# Altium footprint library PCB_LIB_Microcontroller.PcbLib: 13 footprints
Each footprint in its own frame and in the unit in brackets; x right, y up, seen from the top. Pads: shape width x height; smd on the part's side, far side on the other; paste and mask are expansions set on the pad; w line width, h text height; cw(c..) or ccw(c..) is an arc to the next point about the centre after c.
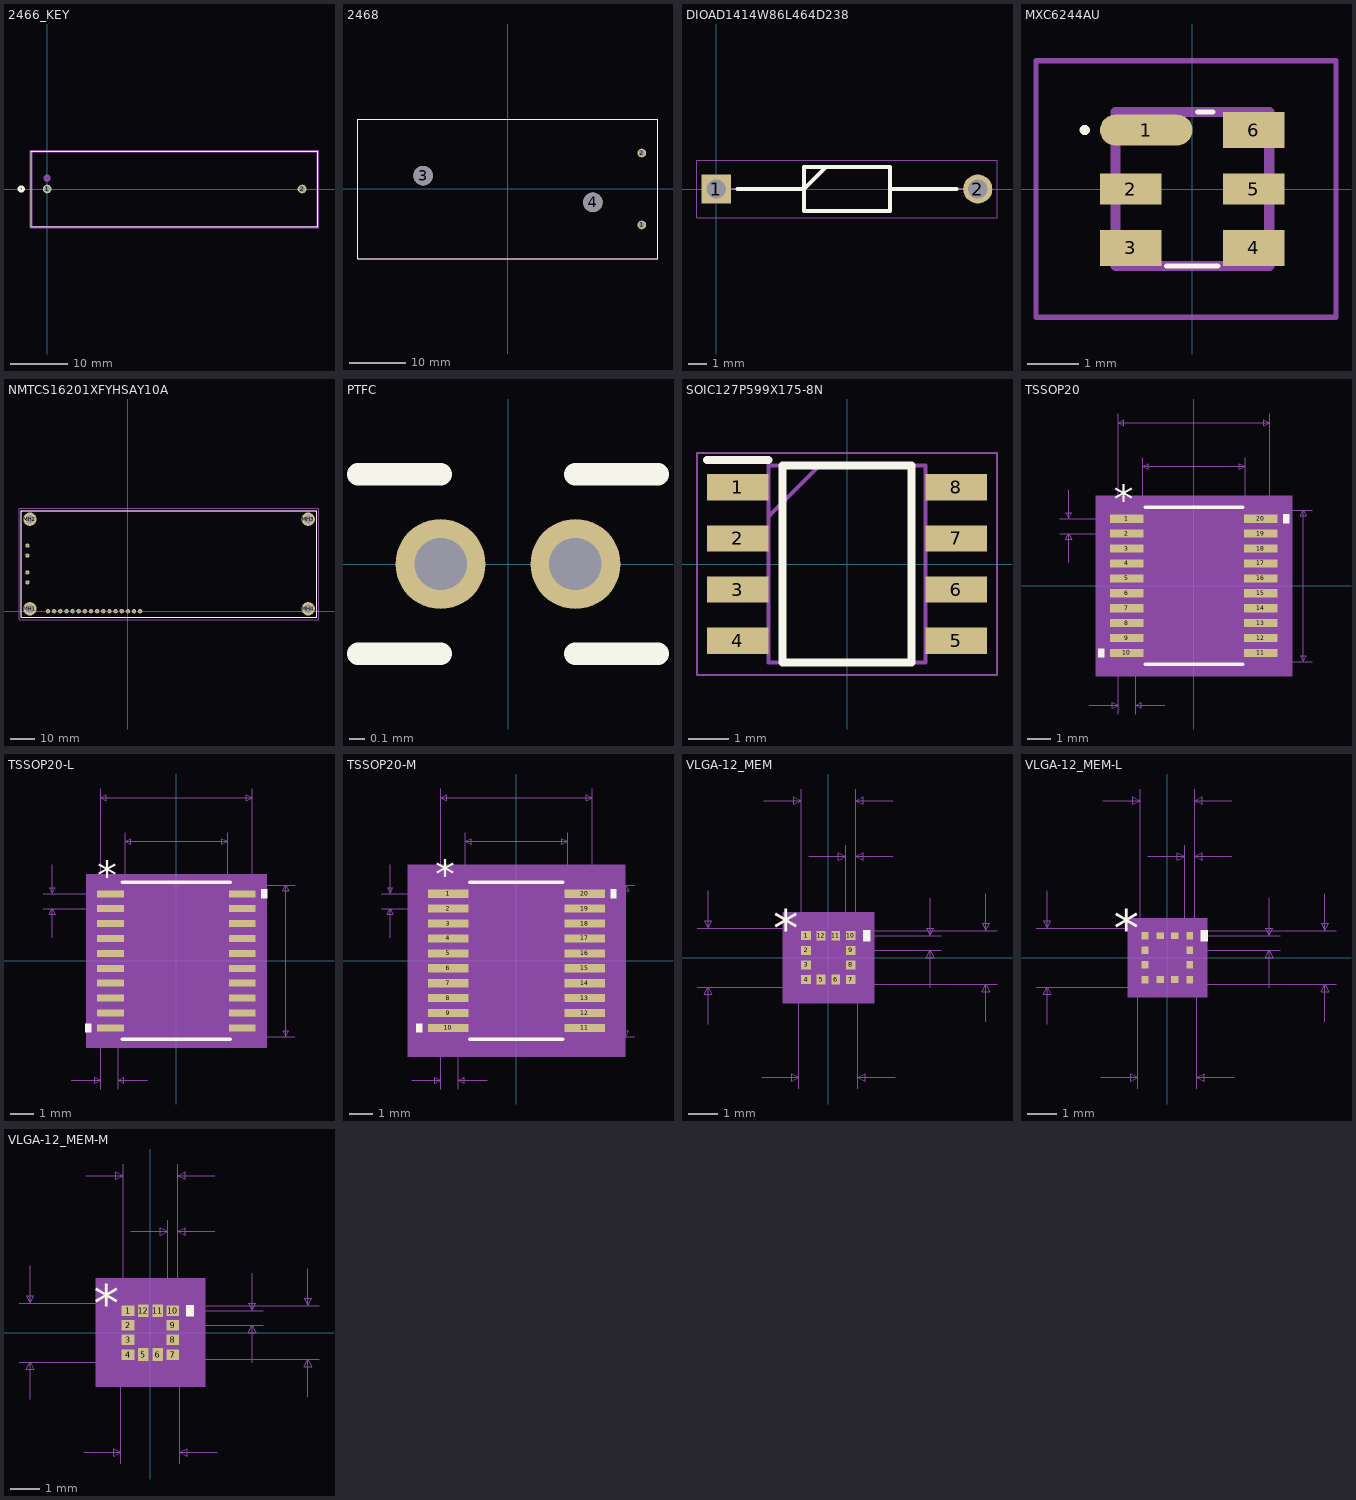
[diagram p0: the footprints below, top view; thin cyan lines are the x and y axes]

## 2466_KEY [mil]
pads (2):
  round 60 hole 40 mask+0: 1(0,0) 2(1760,0)
Top Overlay:
  circle w20: c-179,0 r15
  lines w6: -109,-261 -109,261 1869,261 1869,-261 -109,-261
Bottom Overlay:
  circle w20: c-179,0 r15
Mechanical 13:
  circle w20: c0,75 r15
  lines w1: -104,-256 -104,256 1864,256 1864,-256 -104,-256
Mechanical 15:
  lines w1: -117,-269 -117,269 1877,269 1877,-269 -117,-269
3D body: height 10, standoff 0, extent 0,0 10,10

## 2468 [mm]
pads (4):
  round 1.53 hole 1.02: 1(23.625,-6.35) 2(23.625,6.35)
  round 3.45 hole 3.45 unplated: 3(-14.985,2.35) 4(14.985,-2.35)
Top Overlay:
  lines w0.1: -26.49,-12.295 -26.49,12.295 26.49,12.295 26.49,-12.295 -26.49,-12.295
Mechanical 13:
  lines w0.1: -26.49,-12.295 -26.49,12.295 26.49,12.295 26.49,-12.295 -26.49,-12.295
3D body "2468.stp": height 13.7, standoff -12, extent -26.72,-12.295 26.26,12.295

## DIOAD1414W86L464D238 [mm]
pads (2):
  rect 1.575x1.575 hole 1.05: 1(0,0)
  round 1.575 hole 1.05: 2(14.1,0)
Top Overlay:
  lines w0.2: 1.138,0 4.732,0 5.92,1.188 ; 9.368,0 12.962,0 ; 4.732,-1.188 4.732,1.188 9.368,1.188 9.368,-1.188 4.732,-1.188
Mechanical 13:
  lines w0.1: 0,0 4.732,0 5.92,1.188 ; 9.368,0 14.1,0 ; 4.732,-1.187 4.732,1.188 9.367,1.188 9.367,-1.187 4.732,-1.187
Mechanical 15:
  lines w0.05: -1.038,-1.537 -1.038,1.538 15.137,1.538 15.137,-1.537 -1.038,-1.537
3D body "1N5818.stp": height 2.7, standoff -2.71, extent -0.427,-1.352 14.565,1.352

## MXC6244AU [mm]
pads (6):
  rrect100% 1.8x0.6 smd: 1(-0.9,1.15)
  rect 1.2x0.6 smd: 2(-1.2,0) 5(1.2,0)
  rect 1.2x0.7 smd: 3(-1.2,-1.15) 4(1.2,-1.15) 6(1.2,1.15)
Top Overlay:
  lines w0.1: -0.5,-1.5 0.5,-1.5 ; 0.1,1.5 0.4,1.5 ; -2.1,1.1 ccw(c-2.1,1.15) -2.1,1.2 ccw(c-2.1,1.15) -2.1,1.1
Mechanical 13:
  lines w0.2: -1.5,-1.5 -1.5,1.5 1.5,1.5 1.5,-1.5 -1.5,-1.5
Mechanical 15:
  lines w0.1: -3.05,-2.5 -3.05,2.5 2.8,2.5 2.8,-2.5 -3.05,-2.5
3D body "MXC6244AU.stp": height 1.4, standoff 0, extent -1.5,-1.5 1.5,1.5

## NMTCS16201XFYHSAY10A [mm]
pads (24):
  round 1.8 hole 1: 1(0,0) 2(-2.54,0) 3(-5.08,0) 4(-7.62,0) 5(-10.16,0) 6(-12.7,0) 7(-15.24,0) 8(-17.78,0) 9(-20.32,0) 10(-22.86,0) 11(-25.4,0) 12(-27.94,0) 13(-30.48,0) 14(-33.02,0) 15(2.54,0) 16(5.08,0) A1(-41.5,16) A2(-41.5,11.88) K1(-41.5,23) K2(-41.5,27.12)
  round 5.55 hole 3.5: MH1(-40.5,1) MH2(-40.5,38) MH3(74.5,38) MH4(74.5,1)
Top Overlay:
  lines w0.2: 0,-3.2 cw(c0,-3.15) 0,-3.1 ; 0,-3.2 ccw(c0,-3.15) 0,-3.1 ; 0,-3.2 cw(c0,-3.15) 0,-3.1 ; -44,-2.5 -44,41.5 78,41.5 78,-2.5 -44,-2.5
Mechanical 13:
  lines w0.1: -44,-2.5 -44,41.5 78,41.5 78,-2.5 -44,-2.5
Mechanical 15:
  lines w0.1: -45,-3.5 -45,42.5 79,42.5 79,-3.5 -45,-3.5
3D body "NMTC-S16201XFYHSAY-10A.stp": height 14.1, standoff -5, extent -44,-2.5 78,41.5

## PTFC [mm]
pads (2):
  round 0.6 hole 0.35: ""(-0.45,0) ""(0.45,0)
Top Overlay:
  lines w0.15: -1,-0.6 -0.45,-0.6 ; -1,0.6 -0.45,0.6 ; 0.45,-0.6 1,-0.6 ; 0.45,0.6 1,0.6
3D body "c-nb-ptco-157-a-3d.stp": height 6.3, standoff -6, extent -1,-0.5 1,0.5

## SOIC127P599X175-8N [mm]
pads (8):
  rect 1.526x0.65 smd: 1(-2.712,1.905) 2(-2.712,0.635) 3(-2.712,-0.635) 4(-2.712,-1.905) 5(2.712,-1.905) 6(2.712,-0.635) 7(2.712,0.635) 8(2.712,1.905)
Top Overlay:
  lines w0.2: -3.475,2.58 -1.95,2.58 ; -1.6,-2.451 -1.6,2.451 1.6,2.451 1.6,-2.451 -1.6,-2.451
Mechanical 13:
  lines w0.1: -1.95,1.181 -0.68,2.451 ; -1.95,-2.451 -1.95,2.451 1.95,2.451 1.95,-2.451 -1.95,-2.451
Mechanical 15:
  lines w0.05: -3.725,-2.752 -3.725,2.752 3.725,2.752 3.725,-2.752 -3.725,-2.752
3D body "LT1110CS8#PBF.stp": height 1.75, standoff 0, extent -2.997,-2.451 2.997,2.451

## TSSOP20 [mm]
pads (20):
  rect 1.462x0.355 smd paste+0 mask+0: 1(-2.921,2.925) 2(-2.921,2.275) 3(-2.921,1.625) 4(-2.921,0.975) 5(-2.921,0.325) 6(-2.921,-0.325) 7(-2.921,-0.975) 8(-2.921,-1.625) 9(-2.921,-2.275) 10(-2.921,-2.925) 11(2.921,-2.925) 12(2.921,-2.275) 13(2.921,-1.625) 14(2.921,-0.975) 15(2.921,-0.325) 16(2.921,0.325) 17(2.921,0.975) 18(2.921,1.625) 19(2.921,2.275) 20(2.921,2.925)
Top Overlay:
  region: 3.906,3.115 4.16,3.115 4.16,2.734 3.906,2.734
  region: -3.906,-2.734 -4.16,-2.734 -4.16,-3.115 -3.906,-3.115
  lines w0.152: -2.126,-3.429 2.126,-3.429 ; -2.126,3.429 2.126,3.429
  text "*" at -3.492,3.153 h1.27
Mechanical 5:
  region: 4.287,-3.937 -4.287,-3.937 -4.287,3.937 4.287,3.937
Mechanical 7:
  lines w0.025: -5.842,2.275 -2.921,2.275 ; -5.842,2.925 -2.921,2.925 ; -5.461,1.005 -5.461,2.275 ; -5.461,4.195 -5.461,2.925 ; -4.572,-5.207 -3.302,-5.207 ; -3.302,-5.588 -3.302,0 -3.302,7.493 ; -2.54,-5.588 -2.54,0 ; -2.235,0 -2.235,5.588 ; -1.27,-5.207 -2.54,-5.207 ; 0,-3.302 5.156,-3.302 ; 0,3.302 5.156,3.302 ; 2.235,0 2.235,5.588 ; 3.302,0 3.302,7.493 ; -5.461,2.275 -5.334,2.021 -5.588,2.021 -5.461,2.275 ; -5.461,2.925 -5.334,3.179 -5.588,3.179 -5.461,2.925 ; -3.302,-5.207 -3.556,-5.334 -3.556,-5.08 -3.302,-5.207 ; -3.302,7.112 -3.048,6.985 -3.048,7.239 -3.302,7.112 ; -3.302,7.112 3.302,7.112 ; -2.54,-5.207 -2.286,-5.334 -2.286,-5.08 -2.54,-5.207 ; -2.235,5.207 -1.981,5.08 -1.981,5.334 -2.235,5.207 ; -2.235,5.207 2.235,5.207 ; 2.235,5.207 1.981,5.08 1.981,5.334 2.235,5.207 ; 3.302,7.112 3.048,6.985 3.048,7.239 3.302,7.112 ; 4.775,-3.302 4.902,-3.048 4.648,-3.048 4.775,-3.302 ; 4.775,-3.302 4.775,3.302 ; 4.775,3.302 4.902,3.048 4.648,3.048 4.775,3.302
  text "0.03in/0.762mm" at -5.143,-6.35 h0.64
  text "0.026in/0.65mm" at -10.414,2.282 h0.64
  text "0.26in/6.604mm" at 5.283,-0.318 h0.64
  text "0.26in/6.604mm" at -2.222,7.62 h0.64
  text "0.176in/4.47mm" at -2.222,5.715 h0.64
  text "Alt 2 Padstyle: b229_152h76" at -8.572,-16.002 h1.27
  text "Alt 1 Padstyle: b152_229h76" at -8.572,-14.478 h1.27
  text "Pin One Padstyle: r146_35" at -7.938,-9.906 h1.27
  text "Default Padstyle: r146_35" at -7.938,-8.382 h1.27
Mechanical 13:
  lines w0: -0.305,3.302 ccw(c0,3.302) 0.305,3.302
  lines w0.025: -3.302,-3.077 -2.235,-3.077 -2.235,-2.773 -3.302,-2.773 -3.302,-3.077 ; -3.302,-2.427 -2.235,-2.427 -2.235,-2.123 -3.302,-2.123 -3.302,-2.427 ; -3.302,-1.777 -2.235,-1.777 -2.235,-1.473 -3.302,-1.473 -3.302,-1.777 ; -3.302,-1.127 -2.235,-1.127 -2.235,-0.823 -3.302,-0.823 -3.302,-1.127 ; -3.302,-0.477 -2.235,-0.477 -2.235,-0.173 -3.302,-0.173 -3.302,-0.477 ; -3.302,0.173 -2.235,0.173 -2.235,0.477 -3.302,0.477 -3.302,0.173 ; -3.302,0.823 -2.235,0.823 -2.235,1.127 -3.302,1.127 -3.302,0.823 ; -3.302,1.473 -2.235,1.473 -2.235,1.777 -3.302,1.777 -3.302,1.473 ; -3.302,2.123 -2.235,2.123 -2.235,2.427 -3.302,2.427 -3.302,2.123 ; -3.302,2.773 -2.235,2.773 -2.235,3.077 -3.302,3.077 -3.302,2.773 ; -2.235,-3.302 -2.235,3.302 2.235,3.302 2.235,-3.302 -2.235,-3.302 ; 2.235,-3.077 3.302,-3.077 3.302,-2.773 2.235,-2.773 2.235,-3.077 ; 2.235,-2.427 3.302,-2.427 3.302,-2.123 2.235,-2.123 2.235,-2.427 ; 2.235,-1.777 3.302,-1.777 3.302,-1.473 2.235,-1.473 2.235,-1.777 ; 2.235,-1.127 3.302,-1.127 3.302,-0.823 2.235,-0.823 2.235,-1.127 ; 2.235,-0.477 3.302,-0.477 3.302,-0.173 2.235,-0.173 2.235,-0.477 ; 2.235,0.173 3.302,0.173 3.302,0.477 2.235,0.477 2.235,0.173 ; 2.235,0.823 3.302,0.823 3.302,1.127 2.235,1.127 2.235,0.823 ; 2.235,1.473 3.302,1.473 3.302,1.777 2.235,1.777 2.235,1.473 ; 2.235,2.123 3.302,2.123 3.302,2.427 2.235,2.427 2.235,2.123 ; 2.235,2.773 3.302,2.773 3.302,3.077 2.235,3.077 2.235,2.773
  text "*" at -2.172,1.956 h1.27
Mechanical 15:
  region: -2.489,-3.356 -3.906,-3.356 -3.906,3.356 -2.489,3.356 -2.489,3.556 2.489,3.556 2.489,3.356 3.906,3.356 3.906,-3.356 2.489,-3.356 2.489,-3.556 -2.489,-3.556
  lines w0.152: -3.906,-3.356 -2.489,-3.356 -2.489,-3.556 2.489,-3.556 2.489,-3.356 3.906,-3.356 3.906,3.356 2.489,3.356 2.489,3.556 -2.489,3.556 -2.489,3.356 -3.906,3.356 -3.906,-3.356
3D body "TSSOP20.step": height 1.2, standoff 0, extent -3.302,-3.302 3.302,3.302
3D body "TSSOP20.step": height 1.2, standoff 0, extent -3.302,-3.302 3.302,3.302

## TSSOP20-L [mm]
pads (20):
  rect 1.162x0.305 smd paste+0 mask+0: 1(-2.871,2.925) 2(-2.871,2.275) 3(-2.871,1.625) 4(-2.871,0.975) 5(-2.871,0.325) 6(-2.871,-0.325) 7(-2.871,-0.975) 8(-2.871,-1.625) 9(-2.871,-2.275) 10(-2.871,-2.925) 11(2.871,-2.925) 12(2.871,-2.275) 13(2.871,-1.625) 14(2.871,-0.975) 15(2.871,-0.325) 16(2.871,0.325) 17(2.871,0.975) 18(2.871,1.625) 19(2.871,2.275) 20(2.871,2.925)
Top Overlay:
  region: -3.706,-2.734 -3.96,-2.734 -3.96,-3.115 -3.706,-3.115
  region: 3.706,3.115 3.96,3.115 3.96,2.734 3.706,2.734
  lines w0.152: -2.362,-3.429 2.362,-3.429 ; -2.362,3.429 2.362,3.429
  text "*" at -3.443,3.103 h1.27
Mechanical 5:
  region: 3.935,-3.785 -3.935,-3.785 -3.935,3.785 3.935,3.785
Mechanical 7:
  lines w0.025: -5.792,2.275 -2.871,2.275 ; -5.792,2.925 -2.871,2.925 ; -5.411,1.005 -5.411,2.275 ; -5.411,4.195 -5.411,2.925 ; -4.572,-5.207 -3.302,-5.207 ; -3.302,-5.588 -3.302,0 -3.302,7.493 ; -2.54,-5.588 -2.54,0 ; -2.235,0 -2.235,5.588 ; -1.27,-5.207 -2.54,-5.207 ; 0,-3.302 5.156,-3.302 ; 0,3.302 5.156,3.302 ; 2.235,0 2.235,5.588 ; 3.302,0 3.302,7.493 ; -5.411,2.275 -5.538,2.021 -5.284,2.021 -5.411,2.275 ; -5.411,2.925 -5.538,3.179 -5.284,3.179 -5.411,2.925 ; -3.302,-5.207 -3.556,-5.08 -3.556,-5.334 -3.302,-5.207 ; -3.302,7.112 3.302,7.112 ; -3.302,7.112 -3.048,7.239 -3.048,6.985 -3.302,7.112 ; -2.54,-5.207 -2.286,-5.08 -2.286,-5.334 -2.54,-5.207 ; -2.235,5.207 2.235,5.207 ; -2.235,5.207 -1.981,5.334 -1.981,5.08 -2.235,5.207 ; 2.235,5.207 1.981,5.334 1.981,5.08 2.235,5.207 ; 3.302,7.112 3.048,7.239 3.048,6.985 3.302,7.112 ; 4.775,-3.302 4.775,3.302 ; 4.775,-3.302 4.648,-3.048 4.902,-3.048 4.775,-3.302 ; 4.775,3.302 4.648,3.048 4.902,3.048 4.775,3.302
  text "Default Padstyle: r116_30" at -7.938,-8.382 h1.27
  text "Pin One Padstyle: r116_30" at -7.938,-9.906 h1.27
  text "Alt 1 Padstyle: b152_229h76" at -8.572,-14.478 h1.27
  text "Alt 2 Padstyle: b229_152h76" at -8.572,-16.002 h1.27
  text "0.176in/4.47mm" at -2.222,5.715 h0.64
  text "0.26in/6.604mm" at -2.222,7.62 h0.64
  text "0.26in/6.604mm" at 5.283,-0.318 h0.64
  text "0.026in/0.65mm" at -10.364,2.282 h0.64
  text "0.03in/0.762mm" at -5.143,-6.35 h0.64
Mechanical 13:
  lines w0: -0.305,3.302 ccw(c0,3.302) 0.305,3.302
  lines w0.025: -3.302,-3.077 -3.302,-2.773 -2.235,-2.773 -2.235,-3.077 -3.302,-3.077 ; -3.302,-2.427 -3.302,-2.123 -2.235,-2.123 -2.235,-2.427 -3.302,-2.427 ; -3.302,-1.777 -3.302,-1.473 -2.235,-1.473 -2.235,-1.777 -3.302,-1.777 ; -3.302,-1.127 -3.302,-0.823 -2.235,-0.823 -2.235,-1.127 -3.302,-1.127 ; -3.302,-0.477 -3.302,-0.173 -2.235,-0.173 -2.235,-0.477 -3.302,-0.477 ; -3.302,0.173 -3.302,0.477 -2.235,0.477 -2.235,0.173 -3.302,0.173 ; -3.302,0.823 -3.302,1.127 -2.235,1.127 -2.235,0.823 -3.302,0.823 ; -3.302,1.473 -3.302,1.777 -2.235,1.777 -2.235,1.473 -3.302,1.473 ; -3.302,2.123 -3.302,2.427 -2.235,2.427 -2.235,2.123 -3.302,2.123 ; -3.302,2.773 -3.302,3.077 -2.235,3.077 -2.235,2.773 -3.302,2.773 ; -2.235,-3.302 2.235,-3.302 2.235,3.302 -2.235,3.302 -2.235,-3.302 ; 2.235,-3.077 2.235,-2.773 3.302,-2.773 3.302,-3.077 2.235,-3.077 ; 2.235,-2.427 2.235,-2.123 3.302,-2.123 3.302,-2.427 2.235,-2.427 ; 2.235,-1.777 2.235,-1.473 3.302,-1.473 3.302,-1.777 2.235,-1.777 ; 2.235,-1.127 2.235,-0.823 3.302,-0.823 3.302,-1.127 2.235,-1.127 ; 2.235,-0.477 2.235,-0.173 3.302,-0.173 3.302,-0.477 2.235,-0.477 ; 2.235,0.173 2.235,0.477 3.302,0.477 3.302,0.173 2.235,0.173 ; 2.235,0.823 2.235,1.127 3.302,1.127 3.302,0.823 2.235,0.823 ; 2.235,1.473 2.235,1.777 3.302,1.777 3.302,1.473 2.235,1.473 ; 2.235,2.123 2.235,2.427 3.302,2.427 3.302,2.123 2.235,2.123 ; 2.235,2.773 2.235,3.077 3.302,3.077 3.302,2.773 2.235,2.773
  text "*" at -2.172,1.956 h1.27
Mechanical 15:
  region: -2.337,-3.179 -3.554,-3.179 -3.554,3.179 -2.337,3.179 -2.337,3.404 2.337,3.404 2.337,3.179 3.554,3.179 3.554,-3.179 2.337,-3.179 2.337,-3.404 -2.337,-3.404
  lines w0.152: -3.554,-3.179 -3.554,3.179 -2.337,3.179 -2.337,3.404 2.337,3.404 2.337,3.179 3.554,3.179 3.554,-3.179 2.337,-3.179 2.337,-3.404 -2.337,-3.404 -2.337,-3.179 -3.554,-3.179
3D body "TSSOP20.step": height 1.2, standoff 0, extent -3.302,-3.302 3.302,3.302

## TSSOP20-M [mm]
pads (20):
  rect 1.762x0.355 smd paste+0 mask+0: 1(-2.971,2.925) 2(-2.971,2.275) 3(-2.971,1.625) 4(-2.971,0.975) 5(-2.971,0.325) 6(-2.971,-0.325) 7(-2.971,-0.975) 8(-2.971,-1.625) 9(-2.971,-2.275) 10(-2.971,-2.925) 11(2.971,-2.925) 12(2.971,-2.275) 13(2.971,-1.625) 14(2.971,-0.975) 15(2.971,-0.325) 16(2.971,0.325) 17(2.971,0.975) 18(2.971,1.625) 19(2.971,2.275) 20(2.971,2.925)
Top Overlay:
  region: 4.106,3.115 4.36,3.115 4.36,2.734 4.106,2.734
  region: -4.106,-2.734 -4.36,-2.734 -4.36,-3.115 -4.106,-3.115
  lines w0.152: -2.026,-3.429 2.026,-3.429 ; -2.026,3.429 2.026,3.429
  text "*" at -3.542,3.153 h1.27
Mechanical 5:
  region: 4.741,-4.191 -4.741,-4.191 -4.741,4.191 4.741,4.191
Mechanical 7:
  lines w0.025: -5.892,2.275 -2.971,2.275 ; -5.892,2.925 -2.971,2.925 ; -5.511,1.005 -5.511,2.275 ; -5.511,4.195 -5.511,2.925 ; -4.572,-5.207 -3.302,-5.207 ; -3.302,-5.588 -3.302,0 -3.302,7.493 ; -2.54,-5.588 -2.54,0 ; -2.235,0 -2.235,5.588 ; -1.27,-5.207 -2.54,-5.207 ; 0,-3.302 5.156,-3.302 ; 0,3.302 5.156,3.302 ; 2.235,0 2.235,5.588 ; 3.302,0 3.302,7.493 ; -5.511,2.275 -5.384,2.021 -5.638,2.021 -5.511,2.275 ; -5.511,2.925 -5.384,3.179 -5.638,3.179 -5.511,2.925 ; -3.302,-5.207 -3.556,-5.334 -3.556,-5.08 -3.302,-5.207 ; -3.302,7.112 -3.048,6.985 -3.048,7.239 -3.302,7.112 ; -3.302,7.112 3.302,7.112 ; -2.54,-5.207 -2.286,-5.334 -2.286,-5.08 -2.54,-5.207 ; -2.235,5.207 -1.981,5.08 -1.981,5.334 -2.235,5.207 ; -2.235,5.207 2.235,5.207 ; 2.235,5.207 1.981,5.08 1.981,5.334 2.235,5.207 ; 3.302,7.112 3.048,6.985 3.048,7.239 3.302,7.112 ; 4.775,-3.302 4.902,-3.048 4.648,-3.048 4.775,-3.302 ; 4.775,-3.302 4.775,3.302 ; 4.775,3.302 4.902,3.048 4.648,3.048 4.775,3.302
  text "0.03in/0.762mm" at -5.143,-6.35 h0.64
  text "0.026in/0.65mm" at -10.464,2.282 h0.64
  text "0.26in/6.604mm" at 5.283,-0.318 h0.64
  text "0.26in/6.604mm" at -2.222,7.62 h0.64
  text "0.176in/4.47mm" at -2.222,5.715 h0.64
  text "Alt 2 Padstyle: b229_152h76" at -8.572,-16.002 h1.27
  text "Alt 1 Padstyle: b152_229h76" at -8.572,-14.478 h1.27
  text "Pin One Padstyle: r176_35" at -7.938,-9.906 h1.27
  text "Default Padstyle: r176_35" at -7.938,-8.382 h1.27
Mechanical 13:
  lines w0: -0.305,3.302 ccw(c0,3.302) 0.305,3.302
  lines w0.025: -3.302,-3.077 -2.235,-3.077 -2.235,-2.773 -3.302,-2.773 -3.302,-3.077 ; -3.302,-2.427 -2.235,-2.427 -2.235,-2.123 -3.302,-2.123 -3.302,-2.427 ; -3.302,-1.777 -2.235,-1.777 -2.235,-1.473 -3.302,-1.473 -3.302,-1.777 ; -3.302,-1.127 -2.235,-1.127 -2.235,-0.823 -3.302,-0.823 -3.302,-1.127 ; -3.302,-0.477 -2.235,-0.477 -2.235,-0.173 -3.302,-0.173 -3.302,-0.477 ; -3.302,0.173 -2.235,0.173 -2.235,0.477 -3.302,0.477 -3.302,0.173 ; -3.302,0.823 -2.235,0.823 -2.235,1.127 -3.302,1.127 -3.302,0.823 ; -3.302,1.473 -2.235,1.473 -2.235,1.777 -3.302,1.777 -3.302,1.473 ; -3.302,2.123 -2.235,2.123 -2.235,2.427 -3.302,2.427 -3.302,2.123 ; -3.302,2.773 -2.235,2.773 -2.235,3.077 -3.302,3.077 -3.302,2.773 ; -2.235,-3.302 -2.235,3.302 2.235,3.302 2.235,-3.302 -2.235,-3.302 ; 2.235,-3.077 3.302,-3.077 3.302,-2.773 2.235,-2.773 2.235,-3.077 ; 2.235,-2.427 3.302,-2.427 3.302,-2.123 2.235,-2.123 2.235,-2.427 ; 2.235,-1.777 3.302,-1.777 3.302,-1.473 2.235,-1.473 2.235,-1.777 ; 2.235,-1.127 3.302,-1.127 3.302,-0.823 2.235,-0.823 2.235,-1.127 ; 2.235,-0.477 3.302,-0.477 3.302,-0.173 2.235,-0.173 2.235,-0.477 ; 2.235,0.173 3.302,0.173 3.302,0.477 2.235,0.477 2.235,0.173 ; 2.235,0.823 3.302,0.823 3.302,1.127 2.235,1.127 2.235,0.823 ; 2.235,1.473 3.302,1.473 3.302,1.777 2.235,1.777 2.235,1.473 ; 2.235,2.123 3.302,2.123 3.302,2.427 2.235,2.427 2.235,2.123 ; 2.235,2.773 3.302,2.773 3.302,3.077 2.235,3.077 2.235,2.773
  text "*" at -2.172,1.956 h1.27
Mechanical 15:
  region: -2.743,-3.61 -4.36,-3.61 -4.36,3.61 -2.743,3.61 -2.743,3.81 2.743,3.81 2.743,3.61 4.36,3.61 4.36,-3.61 2.743,-3.61 2.743,-3.81 -2.743,-3.81
  lines w0.152: -4.36,-3.61 -2.743,-3.61 -2.743,-3.81 2.743,-3.81 2.743,-3.61 4.36,-3.61 4.36,3.61 2.743,3.61 2.743,3.81 -2.743,3.81 -2.743,3.61 -4.36,3.61 -4.36,-3.61
3D body "TSSOP20.step": height 1.2, standoff 0, extent -3.302,-3.302 3.302,3.302

## VLGA-12_MEM [mil]
pads (12):
  rect 13x12 smd paste+0 mask+0: 1(-30,29.53) 2(-30,9.84) 3(-30,-9.84) 4(-30,-29.53) 7(30,-29.53) 8(30,-9.84) 9(30,9.84) 10(30,29.53)
  rect 12x13 smd paste+0 mask+0: 5(-9.84,-29.5) 6(9.84,-29.5) 11(9.84,29.5) 12(-9.84,29.5)
Top Overlay:
  region: 46.5,37.03 56.5,37.03 56.5,22.03 46.5,22.03
  text "*" at -74,14.37 h50
Mechanical 5:
  region: 61.5,-61 -61.5,-61 -61.5,61 61.5,61
Mechanical 7:
  lines w1: -176.5,-39.5 39.5,-39.5 ; -176.5,39.5 39.5,39.5 39.5,-176 ; -161.5,-89.5 -161.5,-39.5 ; -161.5,89.5 -161.5,39.5 ; -89.5,-161 -39.5,-161 ; -86.5,211 -36.5,211 ; -39.5,-176 -39.5,39.5 ; -36.5,29.53 -36.5,226 ; -26.5,136 23.5,136 ; 9.84,-36 226.5,-36 ; 9.84,36 226.5,36 ; 23.5,29.53 23.5,151 ; 30,9.84 151.5,9.84 ; 30,29.53 151.5,29.53 ; 36.5,151 36.5,29.53 36.5,226 ; 86.5,136 36.5,136 ; 86.5,211 36.5,211 ; 89.5,-161 39.5,-161 ; 136.5,-40.16 136.5,9.84 ; 136.5,79.53 136.5,29.53 ; 211.5,-86 211.5,-36 ; 211.5,86 211.5,36 ; -161.5,-39.5 -156.5,-49.5 -166.5,-49.5 -161.5,-39.5 ; -161.5,39.5 -156.5,49.5 -166.5,49.5 -161.5,39.5 ; -39.5,-161 -49.5,-166 -49.5,-156 -39.5,-161 ; -36.5,211 -46.5,206 -46.5,216 -36.5,211 ; 23.5,136 13.5,131 13.5,141 23.5,136 ; 36.5,136 46.5,131 46.5,141 36.5,136 ; 36.5,211 46.5,206 46.5,216 36.5,211 ; 39.5,-161 49.5,-166 49.5,-156 39.5,-161 ; 136.5,9.84 141.5,-0.16 131.5,-0.16 136.5,9.84 ; 136.5,29.53 141.5,39.53 131.5,39.53 136.5,29.53 ; 211.5,-36 216.5,-46 206.5,-46 211.5,-36 ; 211.5,36 216.5,46 206.5,46 211.5,36
  text "0.079in/2.007mm" at -93.75,-206 h25
  text "0.079in/2.007mm" at -369,-12.5 h25
  text "0.072in/1.829mm" at 231.5,-12.5 h25
  text "0.073in/1.854mm" at -93.75,231 h25
  text "0.013in/0.33mm" at -57.5,156 h25
  text "0.02in/0.5mm" at 156.5,7.18 h25
  text "Alt 2 Padstyle: OX90Y60D30P" at -337.5,-586 h50
  text "Alt 1 Padstyle: OX60Y90D30P" at -337.5,-526 h50
  text "Default Padstyle: RX12Y13D0T" at -350,-346 h50
Mechanical 13:
  lines w1: -39.5,-10.5 10.5,39.5 ; -39.5,-39.5 -39.5,39.5 39.5,39.5 39.5,-39.5 -39.5,-39.5 ; -39.5,-35.53 -36.5,-35.53 -36.5,-23.53 -39.5,-23.53 -39.5,-35.53 ; -39.5,-15.84 -36.5,-15.84 -36.5,-3.84 -39.5,-3.84 -39.5,-15.84 ; -39.5,3.84 -36.5,3.84 -36.5,15.84 -39.5,15.84 -39.5,3.84 ; -39.5,23.53 -36.5,23.53 -36.5,35.53 -39.5,35.53 -39.5,23.53 ; -15.84,-39.5 -15.84,-36 -3.84,-36 -3.84,-39.5 -15.84,-39.5 ; -15.84,36 -15.84,39.5 -3.84,39.5 -3.84,36 -15.84,36 ; 3.84,-39.5 3.84,-36 15.84,-36 15.84,-39.5 3.84,-39.5 ; 3.84,36 3.84,39.5 15.84,39.5 15.84,36 3.84,36 ; 36.5,-35.53 36.5,-23.53 39.5,-23.53 39.5,-35.53 36.5,-35.53 ; 36.5,-15.84 36.5,-3.84 39.5,-3.84 39.5,-15.84 36.5,-15.84 ; 36.5,3.84 36.5,15.84 39.5,15.84 39.5,3.84 36.5,3.84 ; 36.5,23.53 36.5,35.53 39.5,35.53 39.5,23.53 36.5,23.53
  text "*" at -36,14.37 h50
Mechanical 15:
  region: -25.84,-49.5 -49.5,-49.5 -49.5,-45.53 -49.5,45.53 -49.5,49.5 -25.84,49.5 25.84,49.5 49.5,49.5 49.5,45.53 49.5,-45.53 49.5,-49.5 25.84,-49.5
  lines w6: -49.5,-49.5 -25.84,-49.5 25.84,-49.5 49.5,-49.5 49.5,-45.53 49.5,45.53 49.5,49.5 25.84,49.5 -25.84,49.5 -49.5,49.5 -49.5,45.53 -49.5,-45.53 -49.5,-49.5
3D body "VLGA-12_MEM.step": height 39.09, standoff 0, extent -39.48,-39.48 39.5,39.49
3D body "VLGA-12_MEM.step": height 39.09, standoff 0, extent -39.49,-39.49 39.49,39.49

## VLGA-12_MEM-L [mil]
pads (12):
  rect 9x10 smd paste+0 mask+0: 1(-30,29.53) 2(-30,9.84) 3(-30,-9.84) 4(-30,-29.53) 7(30,-29.53) 8(30,-9.84) 9(30,9.84) 10(30,29.53)
  rect 10x9 smd paste+0 mask+0: 5(-9.84,-29.5) 6(9.84,-29.5) 11(9.84,29.5) 12(-9.84,29.5)
Top Overlay:
  region: 44.5,37.03 54.5,37.03 54.5,22.03 44.5,22.03
  text "*" at -72,14.37 h50
Mechanical 5:
  region: 53.5,-53 -53.5,-53 -53.5,53 53.5,53
Mechanical 7:
  lines w1: -176.5,-39.5 39.5,-39.5 ; -176.5,39.5 39.5,39.5 39.5,-176 ; -161.5,-89.5 -161.5,-39.5 ; -161.5,89.5 -161.5,39.5 ; -89.5,-161 -39.5,-161 ; -86.5,211 -36.5,211 ; -39.5,-176 -39.5,39.5 ; -36.5,29.53 -36.5,226 ; -26.5,136 23.5,136 ; 9.84,-36 226.5,-36 ; 9.84,36 226.5,36 ; 23.5,29.53 23.5,151 ; 30,9.84 151.5,9.84 ; 30,29.53 151.5,29.53 ; 36.5,151 36.5,29.53 36.5,226 ; 86.5,136 36.5,136 ; 86.5,211 36.5,211 ; 89.5,-161 39.5,-161 ; 136.5,-40.16 136.5,9.84 ; 136.5,79.53 136.5,29.53 ; 211.5,-86 211.5,-36 ; 211.5,86 211.5,36 ; -161.5,-39.5 -166.5,-49.5 -156.5,-49.5 -161.5,-39.5 ; -161.5,39.5 -166.5,49.5 -156.5,49.5 -161.5,39.5 ; -39.5,-161 -49.5,-156 -49.5,-166 -39.5,-161 ; -36.5,211 -46.5,216 -46.5,206 -36.5,211 ; 23.5,136 13.5,141 13.5,131 23.5,136 ; 36.5,136 46.5,141 46.5,131 36.5,136 ; 36.5,211 46.5,216 46.5,206 36.5,211 ; 39.5,-161 49.5,-156 49.5,-166 39.5,-161 ; 136.5,9.84 131.5,-0.16 141.5,-0.16 136.5,9.84 ; 136.5,29.53 131.5,39.53 141.5,39.53 136.5,29.53 ; 211.5,-36 206.5,-46 216.5,-46 211.5,-36 ; 211.5,36 206.5,46 216.5,46 211.5,36
  text "Default Padstyle: RX10Y9D0T" at -337.5,-344 h50
  text "Alt 1 Padstyle: OX60Y90D30P" at -337.5,-524 h50
  text "Alt 2 Padstyle: OX90Y60D30P" at -337.5,-584 h50
  text "0.02in/0.5mm" at 156.5,7.18 h25
  text "0.013in/0.33mm" at -57.5,156 h25
  text "0.073in/1.854mm" at -93.75,231 h25
  text "0.072in/1.829mm" at 231.5,-12.5 h25
  text "0.079in/2.007mm" at -369,-12.5 h25
  text "0.079in/2.007mm" at -93.75,-206 h25
Mechanical 13:
  lines w1: -39.5,-10.5 10.5,39.5 ; -39.5,-39.5 39.5,-39.5 39.5,39.5 -39.5,39.5 -39.5,-39.5 ; -39.5,-35.53 -39.5,-23.53 -36.5,-23.53 -36.5,-35.53 -39.5,-35.53 ; -39.5,-15.84 -39.5,-3.84 -36.5,-3.84 -36.5,-15.84 -39.5,-15.84 ; -39.5,3.84 -39.5,15.84 -36.5,15.84 -36.5,3.84 -39.5,3.84 ; -39.5,23.53 -39.5,35.53 -36.5,35.53 -36.5,23.53 -39.5,23.53 ; -15.84,-39.5 -3.84,-39.5 -3.84,-36 -15.84,-36 -15.84,-39.5 ; -15.84,36 -3.84,36 -3.84,39.5 -15.84,39.5 -15.84,36 ; 3.84,-39.5 15.84,-39.5 15.84,-36 3.84,-36 3.84,-39.5 ; 3.84,36 15.84,36 15.84,39.5 3.84,39.5 3.84,36 ; 36.5,-35.53 39.5,-35.53 39.5,-23.53 36.5,-23.53 36.5,-35.53 ; 36.5,-15.84 39.5,-15.84 39.5,-3.84 36.5,-3.84 36.5,-15.84 ; 36.5,3.84 39.5,3.84 39.5,15.84 36.5,15.84 36.5,3.84 ; 36.5,23.53 39.5,23.53 39.5,35.53 36.5,35.53 36.5,23.53
  text "*" at -38,14.37 h50
Mechanical 15:
  region: -18.84,-43.5 -43.5,-43.5 -43.5,-38.53 -43.5,38.53 -43.5,43.5 -18.84,43.5 18.84,43.5 43.5,43.5 43.5,38.53 43.5,-38.53 43.5,-43.5 18.84,-43.5
  lines w6: -43.5,-43.5 -43.5,-38.53 -43.5,38.53 -43.5,43.5 -18.84,43.5 18.84,43.5 43.5,43.5 43.5,38.53 43.5,-38.53 43.5,-43.5 18.84,-43.5 -18.84,-43.5 -43.5,-43.5
3D body "VLGA-12_MEM.step": height 39.09, standoff 0, extent -39.49,-39.49 39.49,39.49

## VLGA-12_MEM-M [mil]
pads (12):
  rect 17x14 smd paste+0 mask+0: 1(-30,29.53) 2(-30,9.84) 3(-30,-9.84) 4(-30,-29.53) 7(30,-29.53) 8(30,-9.84) 9(30,9.84) 10(30,29.53)
  rect 14x17 smd paste+0 mask+0: 5(-9.84,-29.5) 6(9.84,-29.5) 11(9.84,29.5) 12(-9.84,29.5)
Top Overlay:
  region: 48.5,37.03 58.5,37.03 58.5,22.03 48.5,22.03
  text "*" at -76,14.37 h50
Mechanical 5:
  region: 73.5,-73 -73.5,-73 -73.5,73 73.5,73
Mechanical 7:
  lines w1: -176.5,-39.5 39.5,-39.5 ; -176.5,39.5 39.5,39.5 39.5,-176 ; -161.5,-89.5 -161.5,-39.5 ; -161.5,89.5 -161.5,39.5 ; -89.5,-161 -39.5,-161 ; -86.5,211 -36.5,211 ; -39.5,-176 -39.5,39.5 ; -36.5,29.53 -36.5,226 ; -26.5,136 23.5,136 ; 9.84,-36 226.5,-36 ; 9.84,36 226.5,36 ; 23.5,29.53 23.5,151 ; 30,9.84 151.5,9.84 ; 30,29.53 151.5,29.53 ; 36.5,151 36.5,29.53 36.5,226 ; 86.5,136 36.5,136 ; 86.5,211 36.5,211 ; 89.5,-161 39.5,-161 ; 136.5,-40.16 136.5,9.84 ; 136.5,79.53 136.5,29.53 ; 211.5,-86 211.5,-36 ; 211.5,86 211.5,36 ; -161.5,-39.5 -156.5,-49.5 -166.5,-49.5 -161.5,-39.5 ; -161.5,39.5 -156.5,49.5 -166.5,49.5 -161.5,39.5 ; -39.5,-161 -49.5,-166 -49.5,-156 -39.5,-161 ; -36.5,211 -46.5,206 -46.5,216 -36.5,211 ; 23.5,136 13.5,131 13.5,141 23.5,136 ; 36.5,136 46.5,131 46.5,141 36.5,136 ; 36.5,211 46.5,206 46.5,216 36.5,211 ; 39.5,-161 49.5,-166 49.5,-156 39.5,-161 ; 136.5,9.84 141.5,-0.16 131.5,-0.16 136.5,9.84 ; 136.5,29.53 141.5,39.53 131.5,39.53 136.5,29.53 ; 211.5,-36 216.5,-46 206.5,-46 211.5,-36 ; 211.5,36 216.5,46 206.5,46 211.5,36
  text "0.079in/2.007mm" at -93.75,-206 h25
  text "0.079in/2.007mm" at -369,-12.5 h25
  text "0.072in/1.829mm" at 231.5,-12.5 h25
  text "0.073in/1.854mm" at -93.75,231 h25
  text "0.013in/0.33mm" at -57.5,156 h25
  text "0.02in/0.5mm" at 156.5,7.18 h25
  text "Alt 2 Padstyle: OX90Y60D30P" at -337.5,-588 h50
  text "Alt 1 Padstyle: OX60Y90D30P" at -337.5,-528 h50
  text "Default Padstyle: RX14Y17D0T" at -350,-348 h50
Mechanical 13:
  lines w1: -39.5,-10.5 10.5,39.5 ; -39.5,-39.5 -39.5,39.5 39.5,39.5 39.5,-39.5 -39.5,-39.5 ; -39.5,-35.53 -36.5,-35.53 -36.5,-23.53 -39.5,-23.53 -39.5,-35.53 ; -39.5,-15.84 -36.5,-15.84 -36.5,-3.84 -39.5,-3.84 -39.5,-15.84 ; -39.5,3.84 -36.5,3.84 -36.5,15.84 -39.5,15.84 -39.5,3.84 ; -39.5,23.53 -36.5,23.53 -36.5,35.53 -39.5,35.53 -39.5,23.53 ; -15.84,-39.5 -15.84,-36 -3.84,-36 -3.84,-39.5 -15.84,-39.5 ; -15.84,36 -15.84,39.5 -3.84,39.5 -3.84,36 -15.84,36 ; 3.84,-39.5 3.84,-36 15.84,-36 15.84,-39.5 3.84,-39.5 ; 3.84,36 3.84,39.5 15.84,39.5 15.84,36 3.84,36 ; 36.5,-35.53 36.5,-23.53 39.5,-23.53 39.5,-35.53 36.5,-35.53 ; 36.5,-15.84 36.5,-3.84 39.5,-3.84 39.5,-15.84 36.5,-15.84 ; 36.5,3.84 36.5,15.84 39.5,15.84 39.5,3.84 36.5,3.84 ; 36.5,23.53 36.5,35.53 39.5,35.53 39.5,23.53 36.5,23.53
  text "*" at -34,14.37 h50
Mechanical 15:
  region: -36.84,-59.5 -59.5,-59.5 -59.5,-56.53 -59.5,56.53 -59.5,59.5 -36.84,59.5 36.84,59.5 59.5,59.5 59.5,56.53 59.5,-56.53 59.5,-59.5 36.84,-59.5
  lines w6: -59.5,-59.5 -36.84,-59.5 36.84,-59.5 59.5,-59.5 59.5,-56.53 59.5,56.53 59.5,59.5 36.84,59.5 -36.84,59.5 -59.5,59.5 -59.5,56.53 -59.5,-56.53 -59.5,-59.5
3D body "VLGA-12_MEM.step": height 39.09, standoff 0, extent -39.49,-39.49 39.49,39.49